# EAGLE library part ATMEGA16U2-MU (library ATMEGA16U2-MU)
8-bit Microcontrollers - MCU AVR USB 8K FLASH AVR USB 16K FLASH Source: Datasheet <http://ww1.microchip.com/downloads/en/DeviceDoc/doc7799.pdf>
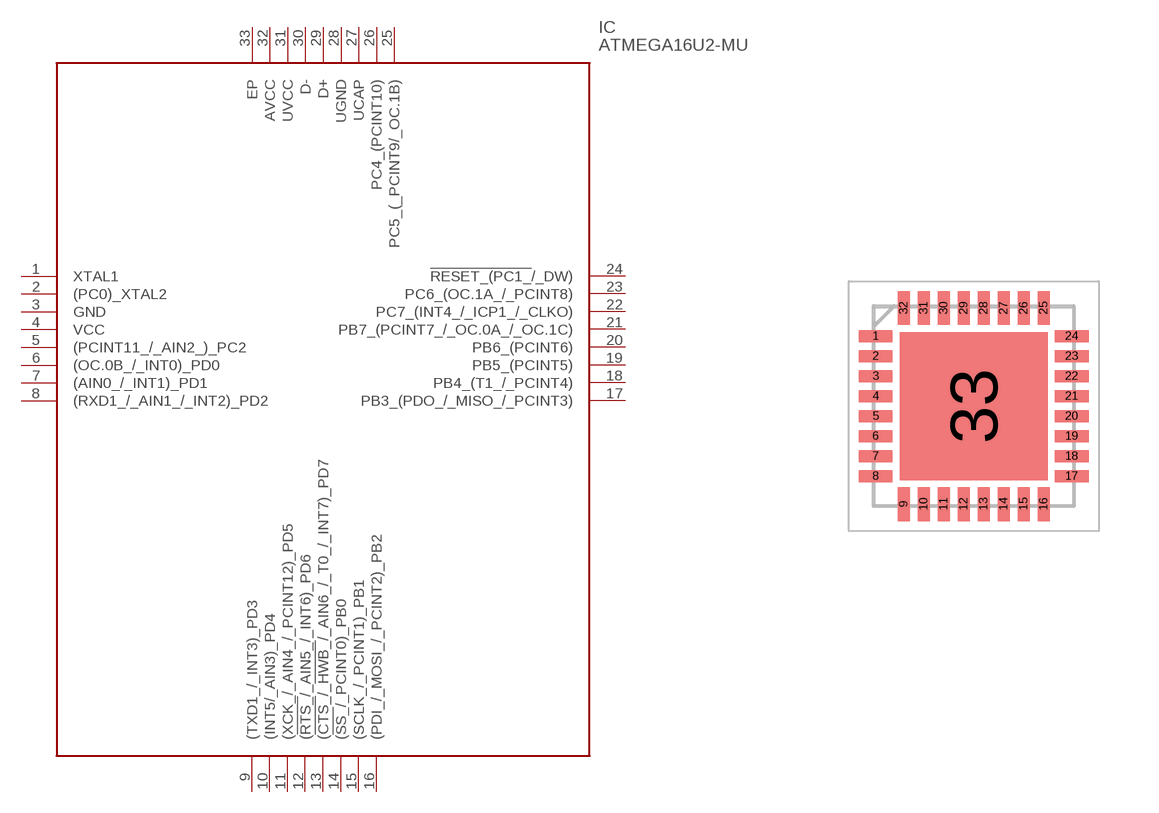
[diagram p0: symbol with the pads of QFN50P500X500X100-33N; footprint QFN50P500X500X100-33N]

Designator prefix IC

## ATMEGA16U2-MU (Description: 8-bit Microcontrollers - MCU AVR USB 8K FLASH AVR USB 16K FLASH; Height: 1mm; Manufacturer_Name: Microchip; Manufacturer_Part_Number: ATMEGA16U2-MU; Mouser_Part_Number: 556-ATMEGA16U2-MU; Mouser_Price-Stock: https://www.mouser.co.uk/ProductDetail/Microchip-Technology/ATMEGA16U2-MU?qs=JV7lzlMm3yIZlyznMyuPNA%3D%3D)  [QFN50P500X500X100-33N]
1  XTAL1
2  (PC0)_XTAL2
3  GND
4  VCC
5  (PCINT11_/_AIN2_)_PC2
6  (OC.0B_/_INT0)_PD0
7  (AIN0_/_INT1)_PD1
8  (RXD1_/_AIN1_/_INT2)_PD2
9  (TXD1_/_INT3)_PD3
10  (INT5/_AIN3)_PD4
11  (XCK_/_AIN4_/_PCINT12)_PD5
12  (!RTS_!/_AIN5_/_INT6)_PD6
13  (!CTS_!/_!HWB_!/_AIN6_/_T0_/_INT7)_PD7
14  (!SS_!/_PCINT0)_PB0
15  (SCLK_/_PCINT1)_PB1
16  (PDI_/_MOSI_/_PCINT2)_PB2
17  PB3_(PDO_/_MISO_/_PCINT3)
18  PB4_(T1_/_PCINT4)
19  PB5_(PCINT5)
20  PB6_(PCINT6)
21  PB7_(PCINT7_/_OC.0A_/_OC.1C)
22  PC7_(INT4_/_ICP1_/_CLKO)
23  PC6_(OC.1A_/_PCINT8)
24  !RESET_(PC1_!/_DW)
25  PC5_(_PCINT9/_OC.1B)
26  PC4_(PCINT10)
27  UCAP
28  UGND
29  D+
30  D-
31  UVCC
32  AVCC
33  EP

## Footprint QFN50P500X500X100-33N (pad centres in mm)
ATMEGA16U2-MU
smd 0.85 x 0.3: 1 -2.45,1.75; 2 -2.45,1.25; 3 -2.45,0.75; 4 -2.45,0.25; 5 -2.45,-0.25; 6 -2.45,-0.75; 7 -2.45,-1.25; 8 -2.45,-1.75; 17 2.45,-1.75; 18 2.45,-1.25; 19 2.45,-0.75; 20 2.45,-0.25; 21 2.45,0.25; 22 2.45,0.75; 23 2.45,1.25; 24 2.45,1.75
smd 0.3 x 0.85: 9 -1.75,-2.45; 10 -1.25,-2.45; 11 -0.75,-2.45; 12 -0.25,-2.45; 13 0.25,-2.45; 14 0.75,-2.45; 15 1.25,-2.45; 16 1.75,-2.45; 25 1.75,2.45; 26 1.25,2.45; 27 0.75,2.45; 28 0.25,2.45; 29 -0.25,2.45; 30 -0.75,2.45; 31 -1.25,2.45; 32 -1.75,2.45
smd 3.7 x 3.7: 33 0,0